# Altium schematic symbol library Motor SCH Library.SchLib: 18 symbols
Pins are listed as number, name and electrical type; pins without a type are passive.

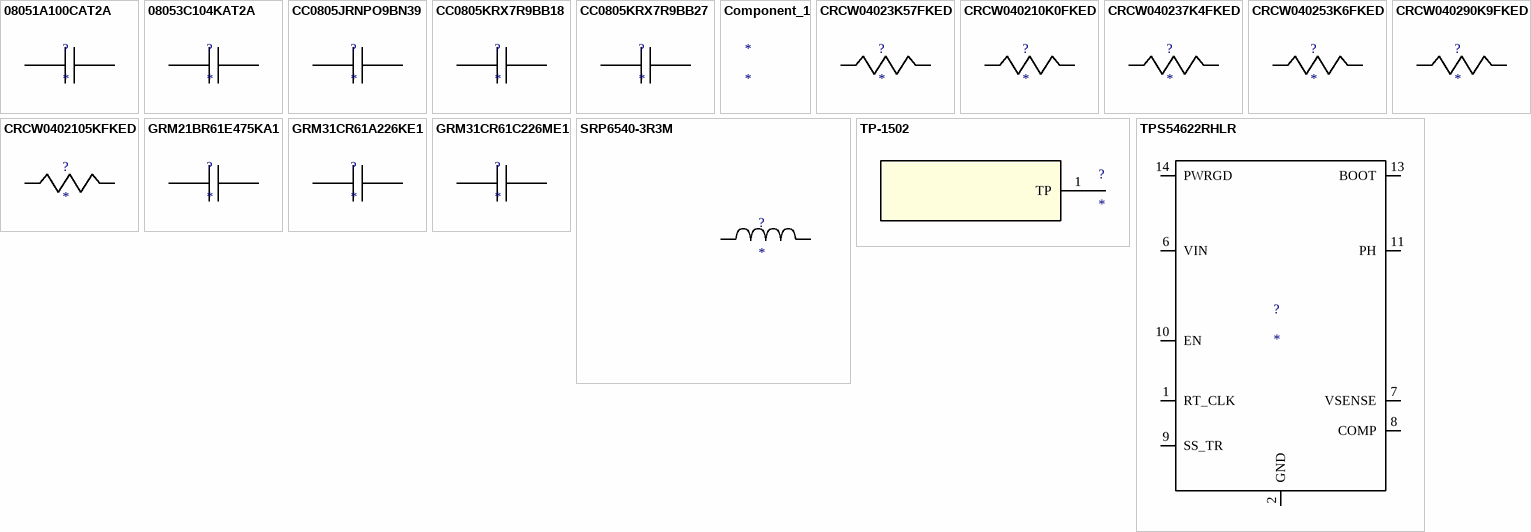
[diagram p0: symbols 08051A100CAT2A to TPS54622RHLR]

## 08051A100CAT2A
designator ?
Imported; Manufacturer_Part_Number: 08051A100CAT2A; Vendor: AVX; RefDes: RefDes; TYPE: TYPE; Value: Value
footprint 0805
pins: 1, 2

## 08053C104KAT2A
designator ?
Imported; Manufacturer_Part_Number: 08053C104KAT2A; Vendor: AVX; RefDes: RefDes; TYPE: TYPE; Value: Value
footprint 0805
pins: 1, 2

## CC0805JRNPO9BN39
designator ?
Imported; Manufacturer_Part_Number: CC0805JRNPO9BN390; Vendor: Yageo America; RefDes: RefDes; TYPE: TYPE; Value: Value
footprint 0805
pins: 1, 2

## CC0805KRX7R9BB18
designator ?
Imported; Manufacturer_Part_Number: CC0805KRX7R9BB183; Vendor: Yageo America; RefDes: RefDes; TYPE: TYPE; Value: Value
footprint 0805
pins: 1, 2

## CC0805KRX7R9BB27
designator ?
Imported; Manufacturer_Part_Number: CC0805KRX7R9BB272; Vendor: Yageo America; RefDes: RefDes; TYPE: TYPE; Value: Value
footprint 0805
pins: 1, 2

## Component_1
designator *

## CRCW04023K57FKED
designator ?
Imported; Manufacturer_Part_Number: CRCW04023K57FKED; Vendor: Vishay-Dale; RefDes: RefDes; TYPE: TYPE; Value: Value
footprint 0402
pins: 1, 2

## CRCW040210K0FKED
designator ?
Imported; Manufacturer_Part_Number: CRCW040210K0FKED; Vendor: Vishay-Dale; RefDes: RefDes; TYPE: TYPE; Value: Value
footprint 0402
pins: 1, 2

## CRCW040237K4FKED
designator ?
Imported; Manufacturer_Part_Number: CRCW040237K4FKED; Vendor: Vishay-Dale; RefDes: RefDes; TYPE: TYPE; Value: Value
footprint 0402
pins: 1, 2

## CRCW040253K6FKED
designator ?
Imported; Manufacturer_Part_Number: CRCW040253K6FKED; Vendor: Vishay-Dale; RefDes: RefDes; TYPE: TYPE; Value: Value
footprint 0402
pins: 1, 2

## CRCW040290K9FKED
designator ?
Imported; Manufacturer_Part_Number: CRCW040290K9FKED; Vendor: Vishay-Dale; RefDes: RefDes; TYPE: TYPE; Value: Value
footprint 0402
pins: 1, 2

## CRCW0402105KFKED
designator ?
Imported; Manufacturer_Part_Number: CRCW0402105KFKED; Vendor: Vishay-Dale; RefDes: RefDes; TYPE: TYPE; Value: Value
footprint 0402
pins: 1, 2

## GRM21BR61E475KA1
designator ?
Imported; Manufacturer_Part_Number: GRM21BR61E475KA12L; Vendor: MuRata; RefDes: RefDes; TYPE: TYPE; Value: Value
footprint 0805
pins: 1, 2

## GRM31CR61A226KE1
designator ?
Imported; Manufacturer_Part_Number: GRM31CR61A226KE19L; Vendor: MuRata; RefDes: RefDes; TYPE: TYPE; Value: Value
footprint 1206_190
pins: 1, 2

## GRM31CR61C226ME1
designator ?
Imported; Manufacturer_Part_Number: GRM31CR61C226ME15L; Vendor: MuRata; RefDes: RefDes; TYPE: TYPE; Value: Value
footprint 1206_190
pins: 1, 2

## SRP6540-3R3M
designator ?
Imported; Manufacturer_Part_Number: SRP6540-3R3M; Vendor: Bourns; DESCRIPTION: Unknown; PACKAGE_DESIGNATOR: SRP6540; Manufacturer: Bourns; RefDes: RefDes; TYPE: TYPE; Value: Value
footprint SRP6540
pins: 1, 2

## TP-1502
designator ?
Imported; Value: Value; Type: Type; RefDes: RefDes
footprint TP-1502
pins: 1 TP

## TPS54622RHLR
designator ?
Imported; Manufacturer_Part_Number: TPS54622RHLR; Vendor: Texas Instruments; RefDes: RefDes; TYPE: TYPE; Value: Value
footprint S-PVQFN-N14
pins: 1 RT_CLK, 2 GND, 3 GND, 4 VIN, 5 VIN, 6 VIN, 7 VSENSE, 8 COMP, 9 SS_TR, 10 EN, 11 PH, 12 PH, 13 BOOT, 14 PWRGD, 15 GND